# EAGLE library part 750342275 (library wurth_electronics_midcom_inc_v2-1)
Package Style: ERL35 Mounting: THT Pins: 14 pins Bobbin: 070-5783 Best pinouts for production vary per application. Please contact Wurth Electronics Midcom, Inc. for assistance with your custom design. Website: Wurth Electronics Midcom <http://www.we-online.com/midcom> Contact us Wurth Electronics Midcom, Inc. 121 Airport Dr. Watertown, SD 57201 Phone: (605) 886-4385 Fax: (605) 886-4486 E-Mail: midcom@we-online.com
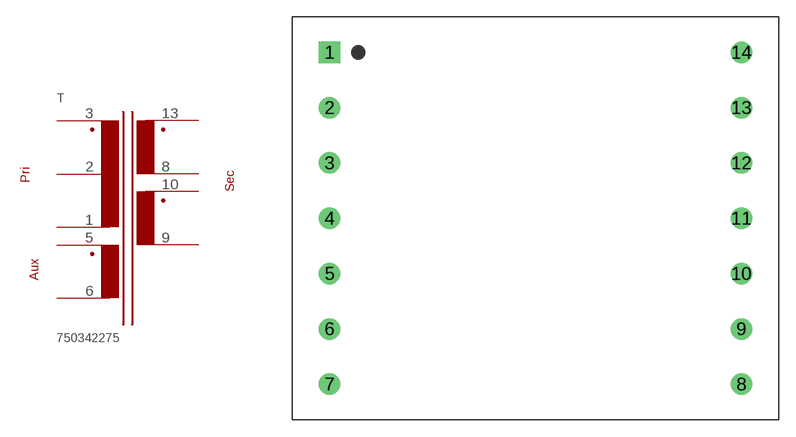
[diagram p19: symbol with the pads of ERL35_THT_H_14PIN_(5783); footprint ERL35_THT_H_14PIN_(5783)]

Designator prefix T

## 750342275  [ERL35_THT_H_14PIN_(5783)]
1  1  pas
2  2  pas
3  3  pas
5  5  pas
6  6  pas
8  8  pas
9  9  pas
10  10  pas
13  13  pas

## Footprint ERL35_THT_H_14PIN_(5783) (pad centres in mm)
Package Style: ERL35 Mounting: THT Pins: 14 Bobbin: 070-5783
drill 1.295 square: 1 -18.605,15.011
drill 1.295: 2 -18.605,10.008; 3 -18.605,5.004; 4 -18.605,0; 5 -18.605,-5.004; 6 -18.605,-10.008; 7 -18.605,-15.011; 8 18.605,-15.011; 9 18.605,-10.008; 10 18.605,-5.004; 11 18.605,0; 12 18.605,5.004; 13 18.605,10.008; 14 18.605,15.011